# Altium integrated library ST7585.IntLib: 1 symbol
Pins are listed as number, name and electrical type; pins without a type are passive.

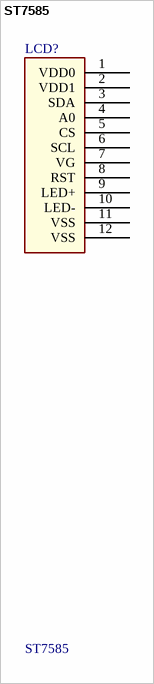
[diagram p0: symbol ST7585]

## ST7585
designator LCD?
footprint ST7585 (Footprint not found)
pins: 1 VDD0, 2 VDD1, 3 SDA, 4 A0, 5 CS, 6 SCL, 7 VG, 8 RST, 9 LED+, 10 LED-, 11 VSS, 12 VSS